# Altium schematic symbol library 4N35.SchLib: 1 symbol
Pins are listed as number, name and electrical type; pins without a type are passive.

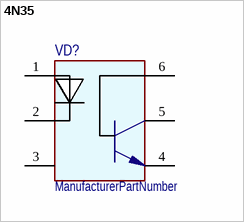
[diagram p0: symbol 4N35]

## 4N35
designator VD?  (value not drawn)
ManufacturerPartNumber: ManufacturerPartNumber
pins: 1 A, 2, 3, 4, 5, 6